# Altium schematic symbol library PI4.SCHLIB: 98 symbols (part 2 of 2)
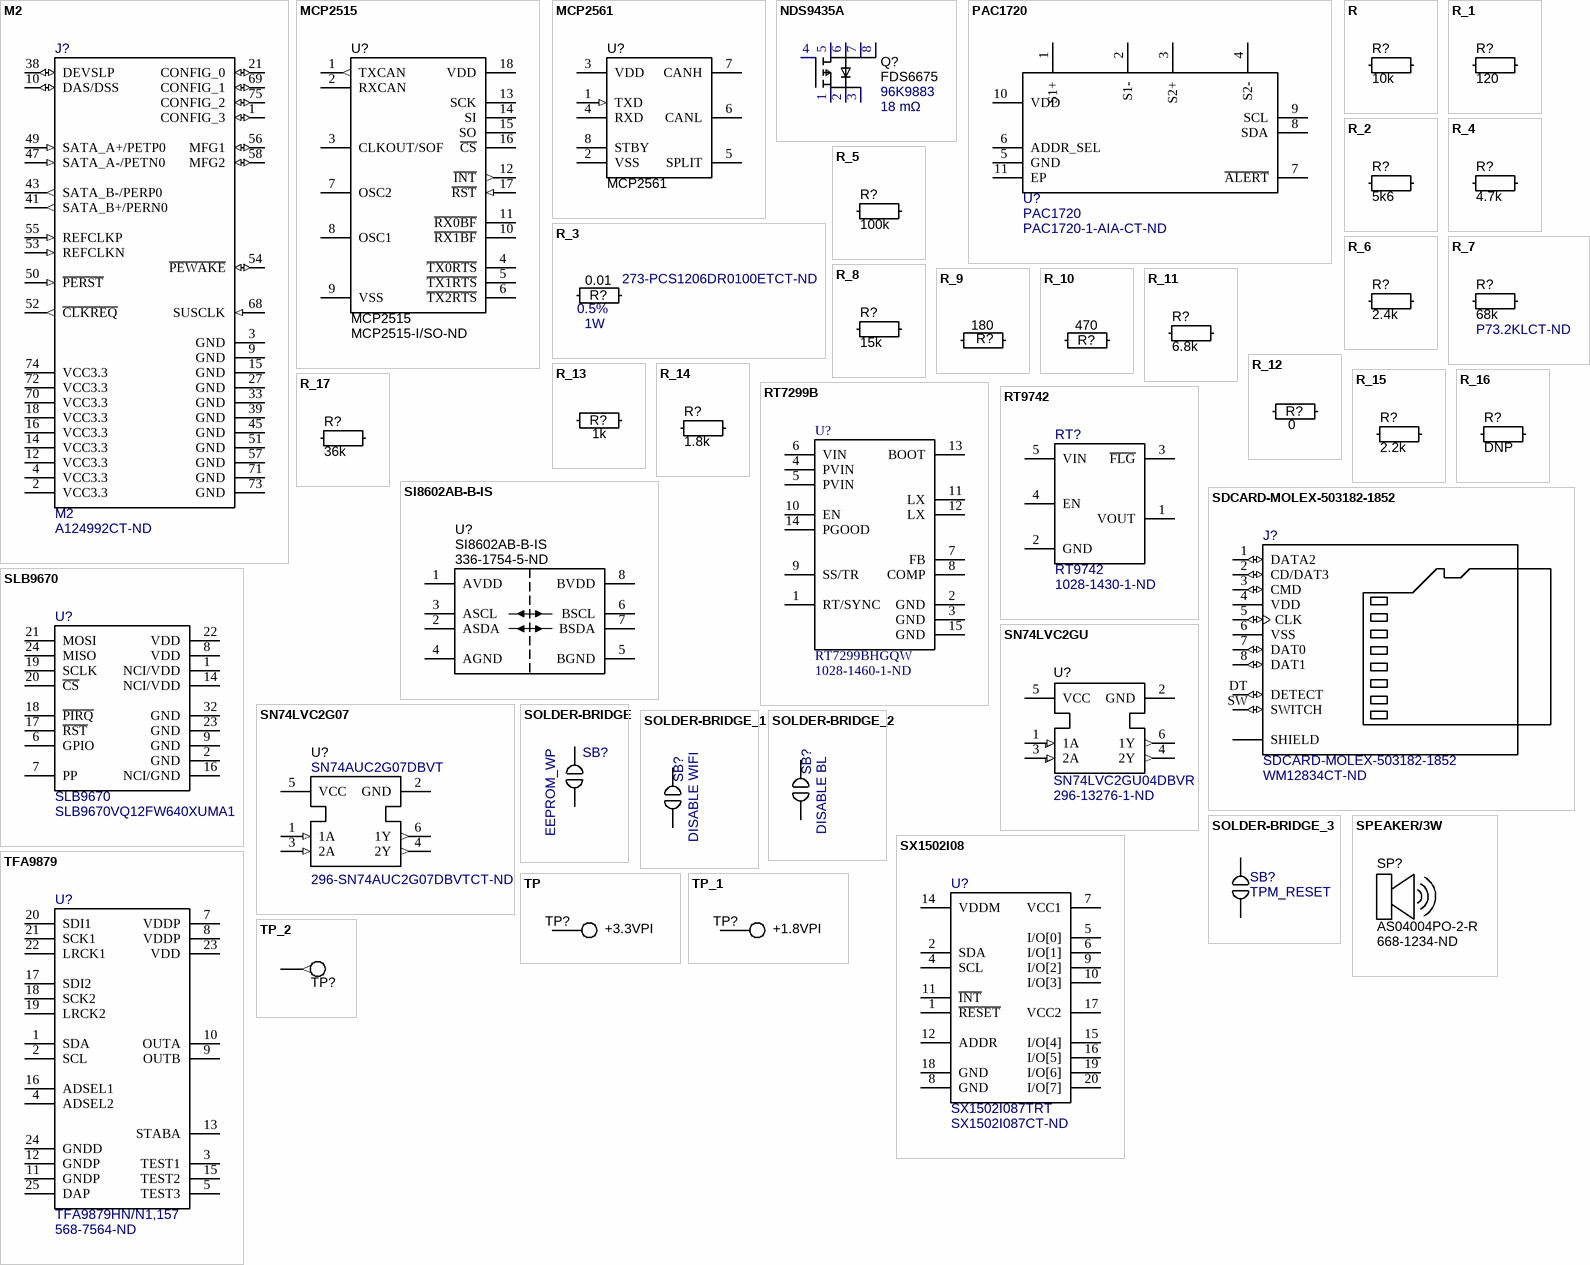
[diagram p6: symbols M2 to TP_2]

## TP_2
designator TP?, comment GLOBAL_EN  (value not drawn)  (no BOM)
Test Point
footprint TP/SMALL
pins: 1 (out)

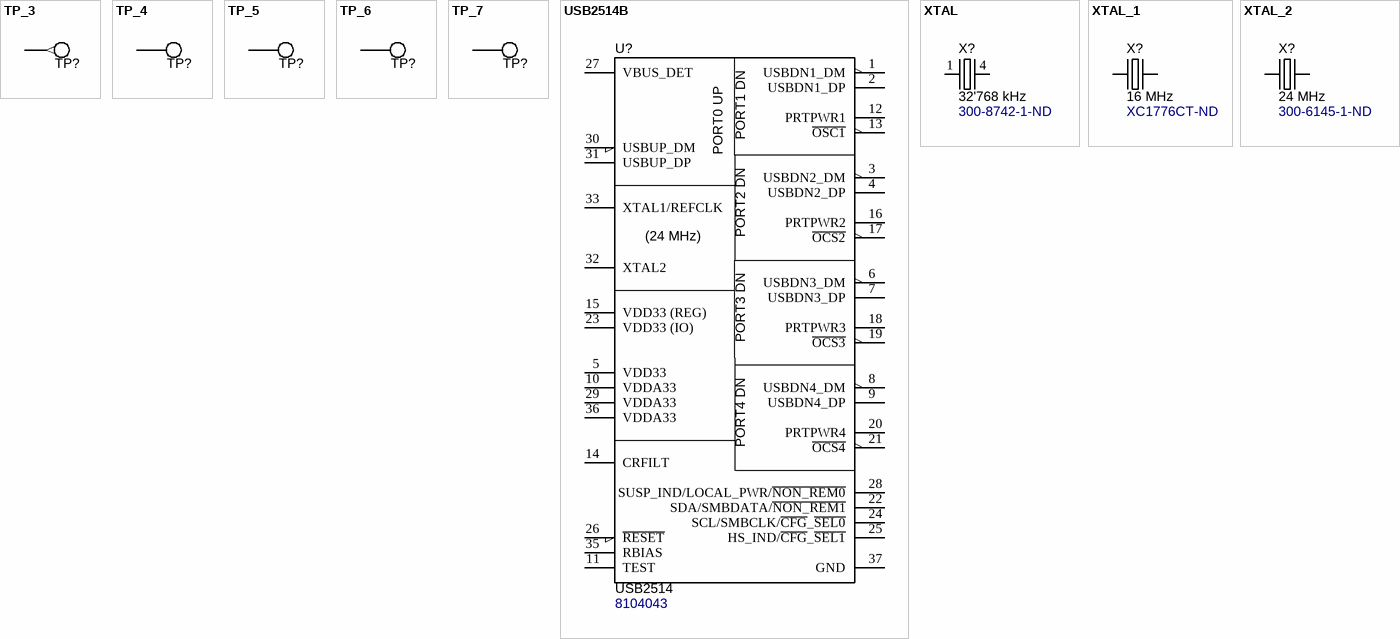
[diagram p5: symbols TP_3 to XTAL_2]

## TP_3
designator TP?, comment nRPIBOOT  (value not drawn)  (no BOM)
Test Point
footprint TP/SMALL
pins: 1 (out)

## TP_4
designator TP?, comment RUN_PG  (value not drawn)  (no BOM)
Test Point
footprint TP/SMALL
pins: 1

## TP_5
designator TP?, comment TP  (value not drawn)  (no BOM)
Test Point
footprint TP/SMALL
pins: 1

## TP_6
designator TP?, comment SYNC_OUT  (value not drawn)  (no BOM)
Test Point
footprint TP/SMALL
pins: 1

## TP_7
designator TP?, comment USB-nEXTRST  (value not drawn)  (no BOM)
Test Point
footprint TP/SMALL
pins: 1

## USB2514B
designator U?, comment USB2514  Supplier Part Number 1: 8104043
USB2 HUB 4-PORT; Supplier 1: RSComponents
footprint QFN36_6X6_MCH
pins: 1 USBDN1_DM, 2 USBDN1_DP, 3 USBDN2_DM, 4 USBDN2_DP, 5 VDD33, 6 USBDN3_DM, 7 USBDN3_DP, 8 USBDN4_DM, 9 USBDN4_DP, 10 VDDA33, 11 TEST, 12 PRTPWR1, 13 ~{OSC1}, 14 CRFILT, 15 VDD33 (REG), 16 PRTPWR2, 17 ~{OCS2}, 18 PRTPWR3, 19 ~{OCS3}, 20 PRTPWR4, 21 ~{OCS4}, 22 SDA/SMBDATA/~{NON_REM1}, 23 VDD33 (IO), 24 SCL/SMBCLK/~{CFG}_~{SEL0}, 25 HS_IND/~{CFG}_~{SEL1}, 26 ~{RESET}, 27 VBUS_DET, 28 SUSP_IND/LOCAL_PWR/~{NON_REM0}, 29 VDDA33, 30 USBUP_DM, 31 USBUP_DP, 32 XTAL2, 33 XTAL1/REFCLK, 35 RBIAS, 36 VDDA33, 37 GND
text: PORT1 DN; PORT0 UP; PORT2 DN; (24 MHz); PORT3 DN; PORT4 DN

## XTAL
designator X?, comment 32'768 kHz  Supplier Part Number 1: 300-8742-1-ND
CM200C32768HZFT; Supplier 1: Digi-Key
footprint CRYSTAL/SMD/ABS25
pins: 1, 4

## XTAL_1
designator X?, comment 16 MHz  Supplier Part Number 1: XC1776CT-ND
Supplier 1: Digi-Key
footprint XTAL-ECS-160-20-3X-TR (CRYSTAL)
pins: 1, 2

## XTAL_2
designator X?, comment 24 MHz  Supplier Part Number 1: 300-6145-1-ND
HCM4924000000ABJT; Supplier 1: Digi-Key
footprint XTAL-ECS-160-20-3X-TR (CRYSTAL)
pins: 1, 2